# Altium footprint library DIP Rotary Encoder.PcbLib: 4 footprints
Each footprint in its own frame and in the unit in brackets; x right, y up, seen from the top. Pads: shape width x height; smd on the part's side, far side on the other; paste and mask are expansions set on the pad; w line width, h text height; cw(c..) or ccw(c..) is an arc to the next point about the centre after c.
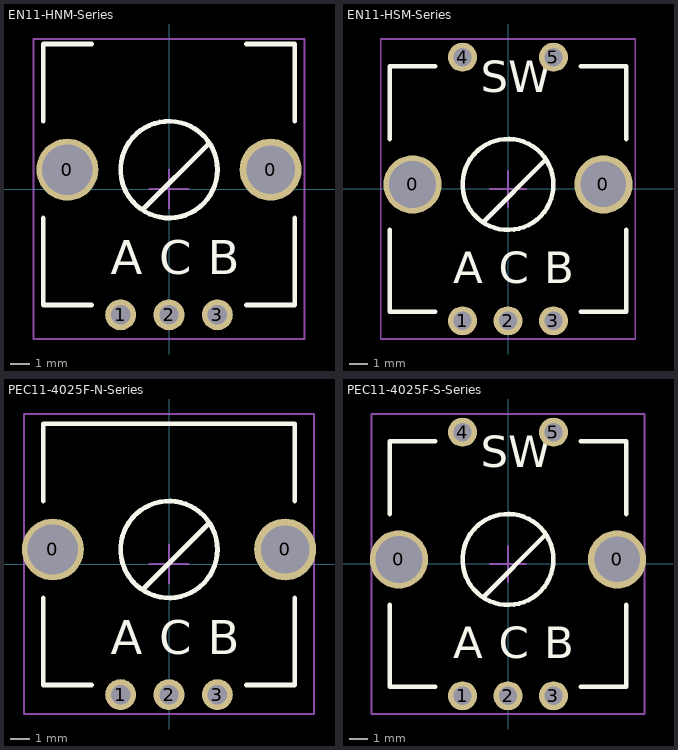
[diagram p0: the footprints below, top view; thin cyan lines are the x and y axes]

## EN11-HNM-Series [mm] "ALPS Rotary Encoder - Top Adjust, without Switch, Threaded Bushing"
height 31
pads (5):
  round 3.2 hole 2.6: 0(-5.25,1)
  round 3.2 hole 2.5: 0(5.25,1)
  round 1.6 hole 1: 1(-2.5,-6.5) 2(0,-6.5) 3(2.5,-6.5)
Top Overlay:
  circle w0.25: c0,1 r2.5
  lines w0.25: -6.5,-1.5 -6.5,-6 -4,-6 ; -6.5,3.5 -6.5,7.5 -4,7.5 ; -1.344,-1.051 2.051,2.344 ; 4,-6 6.5,-6 6.5,-1.5 ; 4,7.5 6.5,7.5 6.5,3.5
  text "A" at -3,-5 h3
  text "C" at -0.5,-5 h3
  text "B" at 2,-5 h3
Mechanical 15:
  lines w0.1: -1,0 1,0 ; 0,-1 0,1 ; -7,-7.75 -7,7.75 7,7.75 7,-7.75 -7,-7.75
3D body: height 33.5, standoff -2.29, extent -6.526,-6.645 6.526,7.35

## EN11-HSM-Series [mm] "ALPS Rotary Encoder - Top Adjust, with Switch, Threaded Bushing"
height 31
pads (7):
  round 3.2 hole 2.6: 0(-5.25,0.25)
  round 3.2 hole 2.5: 0(5.25,0.25)
  round 1.6 hole 1: 1(-2.5,-7.25) 2(0,-7.25) 3(2.5,-7.25) 4(-2.5,7.25) 5(2.5,7.25)
Top Overlay:
  circle w0.25: c0,0.25 r2.5
  lines w0.25: -6.5,-2.25 -6.5,-6.75 -4,-6.75 ; -6.5,2.75 -6.5,6.75 -4,6.75 ; -1.344,-1.801 2.051,1.594 ; 4,-6.75 6.5,-6.75 6.5,-2.25 ; 4,6.75 6.5,6.75 6.5,2.75
  text "A" at -3,-5.75 h3
  text "C" at -0.5,-5.75 h3
  text "B" at 2,-5.75 h3
  text "SW" at -1.5,4.75 h3
Mechanical 15:
  lines w0.1: -1,0 1,0 ; 0,-1 0,1 ; -7,-8.25 -7,8.25 7,8.25 7,-8.25 -7,-8.25
3D body: height 33.5, standoff -2.29, extent -6.526,-7.395 6.526,6.6

## PEC11-4025F-N-Series [mm] "Bourns 12mm Incremental Encoder"
height 31
pads (5):
  round 3.2 hole 2.6: 0(-6,0.75)
  round 3.2 hole 2.5: 0(6,0.75)
  round 1.6 hole 1: 1(-2.5,-6.75) 2(0,-6.75) 3(2.5,-6.75)
Top Overlay:
  circle w0.25: c0,0.75 r2.5
  lines w0.25: -6.5,-1.75 -6.5,-6.25 -4,-6.25 ; -6.5,3.25 -6.5,7.25 6.5,7.25 6.5,3.25 ; -1.344,-1.301 2.051,2.094 ; 4,-6.25 6.5,-6.25 6.5,-1.75
  text "A" at -3,-5.25 h3
  text "C" at -0.5,-5.25 h3
  text "B" at 2,-5.25 h3
Mechanical 15:
  lines w0.1: -1,0 1,0 ; 0,-1 0,1 ; -7.5,-7.75 -7.5,7.75 7.5,7.75 7.5,-7.75 -7.5,-7.75
3D body: height 33.5, standoff -2.29, extent -6.526,-6.895 6.526,7.1

## PEC11-4025F-S-Series [mm] "Bourns 12mm Incremental Encoder"
height 31
pads (7):
  round 3.2 hole 2.6: 0(-6,0.25)
  round 3.2 hole 2.5: 0(6,0.25)
  round 1.6 hole 1: 1(-2.5,-7.25) 2(0,-7.25) 3(2.5,-7.25) 4(-2.5,7.25) 5(2.5,7.25)
Top Overlay:
  circle w0.25: c0,0.25 r2.5
  lines w0.25: -6.5,-2.25 -6.5,-6.75 -4,-6.75 ; -6.5,2.75 -6.5,6.75 -4,6.75 ; -1.344,-1.801 2.051,1.594 ; 4,-6.75 6.5,-6.75 6.5,-2.25 ; 4,6.75 6.5,6.75 6.5,2.75
  text "A" at -3,-5.75 h3
  text "C" at -0.5,-5.75 h3
  text "B" at 2,-5.75 h3
  text "SW" at -1.5,4.75 h3
Mechanical 15:
  lines w0.1: -1,0 1,0 ; 0,-1 0,1 ; -7.5,-8.25 -7.5,8.25 7.5,8.25 7.5,-8.25 -7.5,-8.25
3D body: height 33.5, standoff -2.29, extent -6.526,-7.395 6.526,6.6